# Altium footprint library 0039300080.PcbLib: 1 footprints
Each footprint in its own frame and in the unit in brackets; x right, y up, seen from the top. Pads: shape width x height; smd on the part's side, far side on the other; paste and mask are expansions set on the pad; w line width, h text height; cw(c..) or ccw(c..) is an arc to the next point about the centre after c.
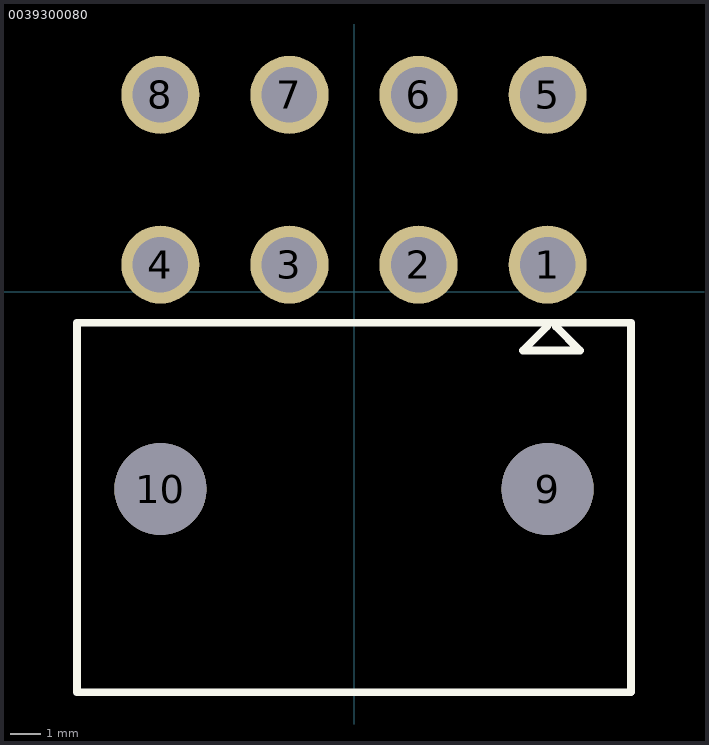
[diagram p0: the footprint, top view; thin cyan lines are the x and y axes]

## 0039300080 [mil] "Molex Minifit 8 Pin"
pads (10):
  round 100 hole 71: 1(247.5,35) 2(82.5,35) 3(-82.5,35) 4(-247.5,35) 5(247.5,252) 6(82.5,252) 7(-82.5,252) 8(-247.5,252)
  round 118 hole 118 unplated: 9(247.5,-252) 10(-247.5,-252)
Top Overlay:
  lines w10: -354.33,-511.84 353.8,-511.84 ; -354.33,-511.81 -354.33,-39.37 354.33,-39.37 354.33,-511.81 ; 247,-43 247,-44 216,-75 289,-75 258,-44
3D body "039300080.stp": height 448.82, standoff -141.73, extent -362.2,-507.84 362.2,277